# Altium integrated library CD4011BE.IntLib: 1 symbol
Pins are listed as number, name and electrical type; pins without a type are passive.

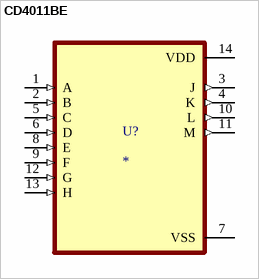
[diagram p0: symbol CD4011BE]

## CD4011BE
designator U?
MP: CD4011BE; Package: None; Value: *; Availability: Unavailable; Price: None
footprint DIP794W45P254L1969H508Q14
pins: 1 A (in), 2 B (in), 3 J (out), 4 K (out), 5 C (in), 6 D (in), 7 VSS (power), 8 E (in), 9 F (in), 10 L (out), 11 M (out), 12 G (in), 13 H (in), 14 VDD (power)